# EAGLE library part SIP6XA (library rezistory)
Rezistorová sít
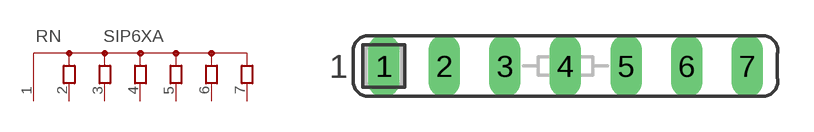
[diagram p5: symbol with the pads of SIL7; footprint SIL7]

Designator prefix RN

## SIP6XA  [SIL7]
1  IN  pas
2  B8  pas
3  B7  pas
4  B6  pas
5  B5  pas
6  B4  pas
7  B3  pas

## Footprint SIL7 (pad centres in mm)
drill 0.813 long: 1 -7.62,0; 2 -5.08,0; 3 -2.54,0; 4 0,0; 5 2.54,0; 6 5.08,0; 7 7.62,0